# EAGLE library part MCP2515-I_SO (library MCP2515-I_SO)
CAN Controller SPI data filtering SO18 Source: Datasheet <http://uk.rs-online.com/web/p/products/1445765>
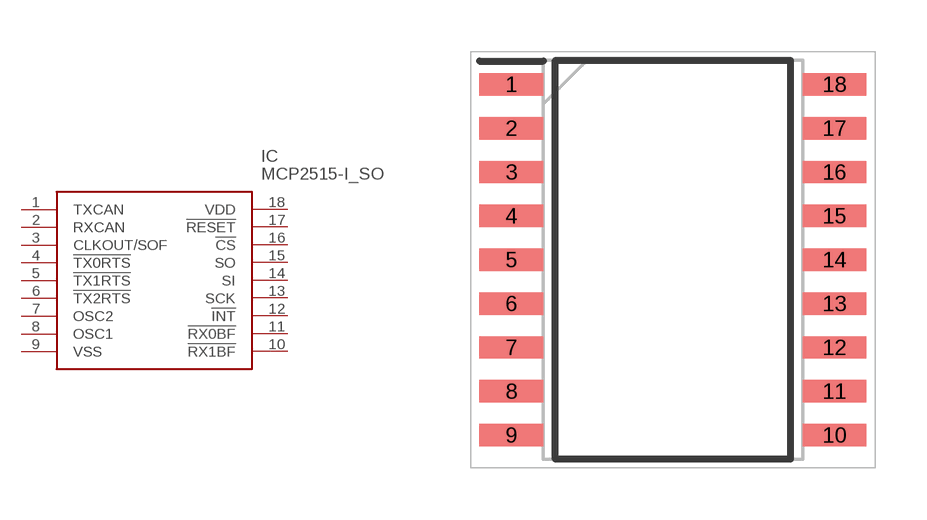
[diagram p0: symbol with the pads of SOIC127P1030X265-18N; footprint SOIC127P1030X265-18N]

Designator prefix IC

## MCP2515-I_SO (Allied_Number: 70045399; Description: CAN Controller SPI data filtering SO18; Height: 2.65mm; Manufacturer_Name: Microchip; Manufacturer_Part_Number: MCP2515-I/SO; RS_Part_Number: 1445765)  [SOIC127P1030X265-18N]
1  TXCAN
2  RXCAN
3  CLKOUT/SOF  out
4  !TX0RTS
5  !TX1RTS
6  !TX2RTS
7  OSC2
8  OSC1
9  VSS  pwr
10  !RX1BF
11  !RX0BF
12  !INT  in
13  SCK
14  SI
15  SO
16  !CS  in
17  !RESET
18  VDD  pwr

## Footprint SOIC127P1030X265-18N (pad centres in mm)
SO 18-Lead [SOIC]
smd 1.85 x 0.65: 1 -4.675,5.08; 2 -4.675,3.81; 3 -4.675,2.54; 4 -4.675,1.27; 5 -4.675,0; 6 -4.675,-1.27; 7 -4.675,-2.54; 8 -4.675,-3.81; 9 -4.675,-5.08; 10 4.675,-5.08; 11 4.675,-3.81; 12 4.675,-2.54; 13 4.675,-1.27; 14 4.675,0; 15 4.675,1.27; 16 4.675,2.54; 17 4.675,3.81; 18 4.675,5.08